# EAGLE library part ESP32-WROOM-32E_M113EH3200PH3Q (library ESP32-WROOM-32E_M113EH3200PH3Q)
WiFi Modules (802.11) SMD Module ESP32-D0WD-V3, 4 MB SPI flash, PCB antenna Source: Datasheet
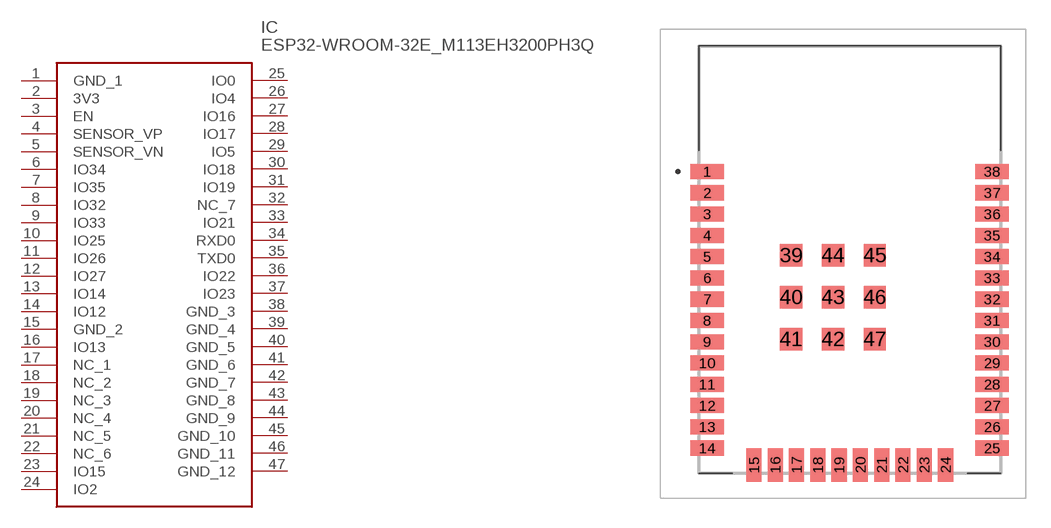
[diagram p0: symbol with the pads of ESP32WROOM32EM113EH3200PH3Q0; footprint ESP32WROOM32EM113EH3200PH3Q0]

Designator prefix IC

## ESP32-WROOM-32E_M113EH3200PH3Q (Description: WiFi Modules (802.11) SMD Module ESP32-D0WD-V3, 4 MB SPI flash, PCB antenna; Height: 3.25mm; Manufacturer_Name: Espressif Systems; Manufacturer_Part_Number: ESP32-WROOM-32E(M113EH3200PH3Q0))  [ESP32WROOM32EM113EH3200PH3Q0]
1  GND_1
2  3V3
3  EN
4  SENSOR_VP
5  SENSOR_VN
6  IO34
7  IO35
8  IO32
9  IO33
10  IO25
11  IO26
12  IO27
13  IO14
14  IO12
15  GND_2
16  IO13
17  NC_1
18  NC_2
19  NC_3
20  NC_4
21  NC_5
22  NC_6
23  IO15
24  IO2
25  IO0
26  IO4
27  IO16
28  IO17
29  IO5
30  IO18
31  IO19
32  NC_7
33  IO21
34  RXD0
35  TXD0
36  IO22
37  IO23
38  GND_3
39  GND_4
40  GND_5
41  GND_6
42  GND_7
43  GND_8
44  GND_9
45  GND_10
46  GND_11
47  GND_12

## Footprint ESP32WROOM32EM113EH3200PH3Q0 (pad centres in mm)
ESP32-WROOM-32E(M113EH3200PH3Q0)-1
smd 2 x 0.9: 1 0,0; 2 0,-1.27; 3 0,-2.54; 4 0,-3.81; 5 0,-5.08; 6 0,-6.35; 7 0,-7.62; 8 0,-8.89; 9 0,-10.16; 10 0,-11.43; 11 0,-12.7; 12 0,-13.97; 13 0,-15.24; 14 0,-16.51; 25 17,-16.51; 26 17,-15.24; 27 17,-13.97; 28 17,-12.7; 29 17,-11.43; 30 17,-10.16; 31 17,-8.89; 32 17,-7.62; 33 17,-6.35; 34 17,-5.08; 35 17,-3.81; 36 17,-2.54; 37 17,-1.27; 38 17,0
smd 0.9 x 2: 15 2.785,-17.51; 16 4.055,-17.51; 17 5.325,-17.51; 18 6.595,-17.51; 19 7.865,-17.51; 20 9.135,-17.51; 21 10.405,-17.51; 22 11.675,-17.51; 23 12.945,-17.51; 24 14.215,-17.51
smd 1.33 x 1.33: 39 5,-5; 40 5,-7.5; 41 5,-10; 42 7.5,-10; 43 7.5,-7.5; 44 7.5,-5; 45 10,-5; 46 10,-7.5; 47 10,-10